# EAGLE library part TDA8772 (library armlab)
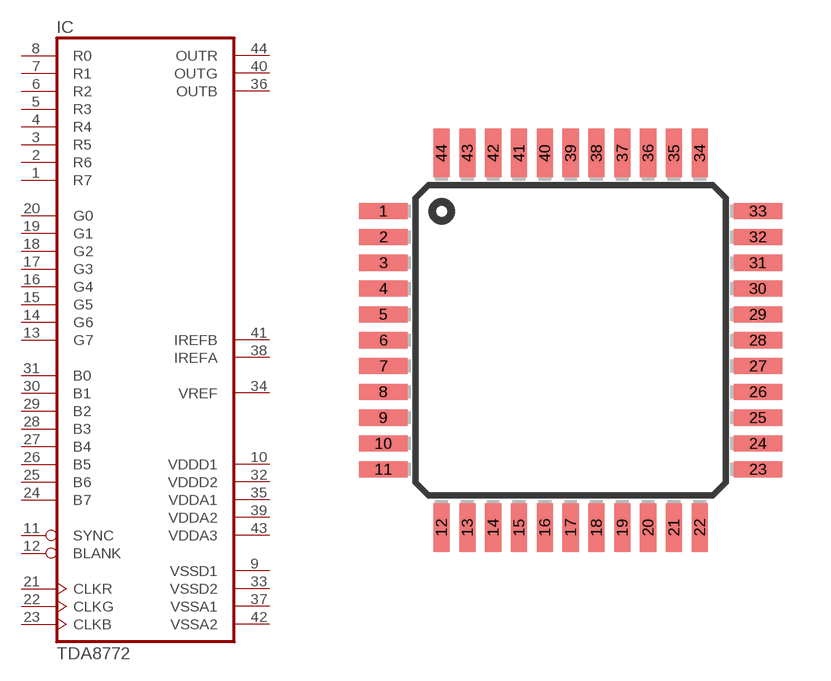
[diagram p5: symbol with the pads of TQFP44; footprint TQFP44]

Designator prefix IC

## TDA8772  [TQFP44]
1  R7  in
2  R6  in
3  R5  in
4  R4  in
5  R3  in
6  R2  in
7  R1  in
8  R0  in
9  VSSD1  pwr
10  VDDD1  pwr
11  SYNC  in
12  BLANK  in
13  G7  in
14  G6  in
15  G5  in
16  G4  in
17  G3  in
18  G2  in
19  G1  in
20  G0  in
21  CLKR  in
22  CLKG  in
23  CLKB  in
24  B7  in
25  B6  in
26  B5  in
27  B4  in
28  B3  in
29  B2  in
30  B1  in
31  B0  in
32  VDDD2  pwr
33  VSSD2  pwr
34  VREF  pwr
35  VDDA1  pwr
36  OUTB  out
37  VSSA1  pwr
38  IREFA  sup
39  VDDA2  sup
40  OUTG  out
41  IREFB  sup
42  VSSA2  sup
43  VDDA3  sup
44  OUTR  out

## Footprint TQFP44 (pad centres in mm)
Thin Quad Flat Pack package type TQ
smd 1.5 x 0.5: 1 -5.8,4; 2 -5.8,3.2; 3 -5.8,2.4; 4 -5.8,1.6; 5 -5.8,0.8; 6 -5.8,0; 7 -5.8,-0.8; 8 -5.8,-1.6; 9 -5.8,-2.4; 10 -5.8,-3.2; 11 -5.8,-4; 23 5.8,-4; 24 5.8,-3.2; 25 5.8,-2.4; 26 5.8,-1.6; 27 5.8,-0.8; 28 5.8,0; 29 5.8,0.8; 30 5.8,1.6; 31 5.8,2.4; 32 5.8,3.2; 33 5.8,4
smd 0.5 x 1.5: 12 -4,-5.8; 13 -3.2,-5.8; 14 -2.4,-5.8; 15 -1.6,-5.8; 16 -0.8,-5.8; 17 0,-5.8; 18 0.8,-5.8; 19 1.6,-5.8; 20 2.4,-5.8; 21 3.2,-5.8; 22 4,-5.8; 34 4,5.8; 35 3.2,5.8; 36 2.4,5.8; 37 1.6,5.8; 38 0.8,5.8; 39 0,5.8; 40 -0.8,5.8; 41 -1.6,5.8; 42 -2.4,5.8; 43 -3.2,5.8; 44 -4,5.8